# EAGLE library part M95020-WMN6P (library custom)
1 Kbit serial SPI bus EEPROM
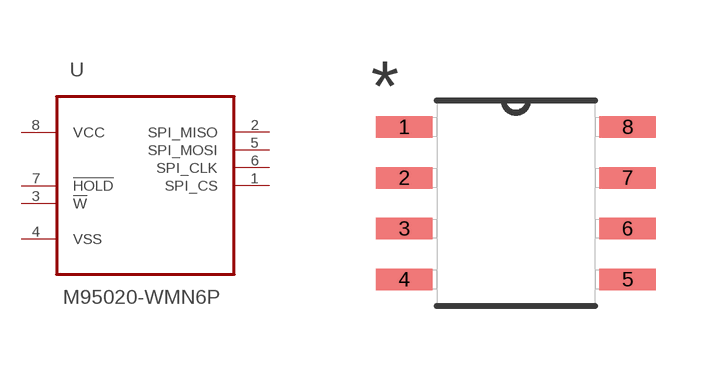
[diagram p1: symbol with the pads of SOIC127P600X175-8N; footprint SOIC127P600X175-8N]

Designator prefix U

## M95020-WMN6P (MPN: M95020-WMN6P; OC_FARNELL: 1218168; OC_NEWARK: 24M5197; PACKAGE: SOIC-8; SUPPLIER: STMICROELECTRONICS)  [SOIC127P600X175-8N]
1  SPI_CS  in
2  SPI_MISO  out
3  !W  pas
4  VSS  pas
5  SPI_MOSI  in
6  SPI_CLK  in
7  !HOLD  pas
8  VCC  pwr

## Footprint SOIC127P600X175-8N (pad centres in mm)
smd 1.422 x 0.533: 1 -2.794,1.905; 2 -2.794,0.635; 3 -2.794,-0.635; 4 -2.794,-1.905; 5 2.794,-1.905; 6 2.794,-0.635; 7 2.794,0.635; 8 2.794,1.905